# EAGLE library part INA163 (library texas-msp)
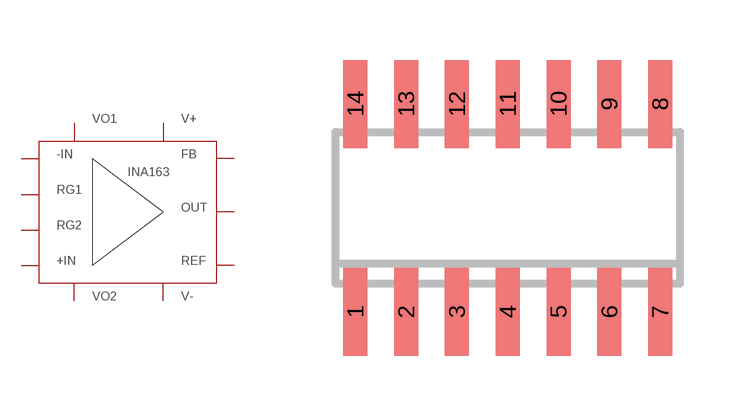
[diagram p2: symbol with the pads of SO-14; footprint SO-14]

Designator prefix -

## INA163-SO14  [SO-14]
1  VO1
3  RGAIN1
4  -IN
5  +IN
6  V-
8  SENSE
9  OUT
10  REF
11  V+
12  RGAIN2
14  VO2

## Footprint SO-14 (pad centres in mm)
Small Outline Narrow Plastic Gull Wing 150-mil body, package type SL
smd 0.6 x 2.2: 1 -3.81,-2.6; 2 -2.54,-2.6; 3 -1.27,-2.6; 4 0,-2.6; 5 1.27,-2.6; 6 2.54,-2.6; 7 3.81,-2.6; 8 3.81,2.6; 9 2.54,2.6; 10 1.27,2.6; 11 0,2.6; 12 -1.27,2.6; 13 -2.54,2.6; 14 -3.81,2.6